# EAGLE library part RTE24005 (library power)
RELAY GENERAL PURPOSE DPDT 8A 5V tested: NO
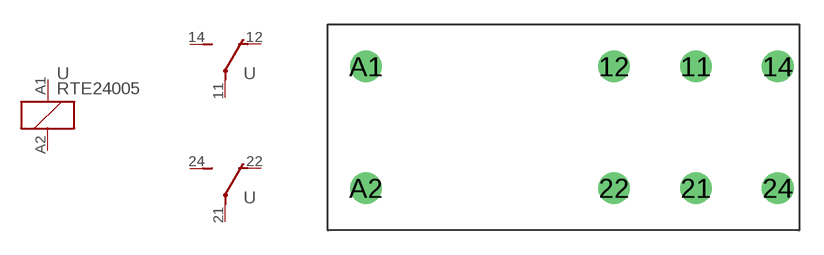
[diagram p5: symbol with the pads of RT2; footprint RT2]

Designator prefix -; gates K=K S1=U S2=U

## RTE24005  [RT2]
11  S1:P  pas
12  S1:O  pas
14  S1:S  pas
21  S2:P  pas
22  S2:O  pas
24  S2:S  pas
A1  K:1  pas
A2  K:2  pas

## Footprint RT2 (pad centres in mm)
drill 1.3: 11 0,3.75; 12 -5.04,3.75; 14 5.04,3.75; 21 0,-3.75; 22 -5.04,-3.75; 24 5.04,-3.75; A1 -20.3,3.75; A2 -20.3,-3.75